# EAGLE library part 2X20-CHIP-HEADERS (library VGA-DIP)
Through hole layout with chip reference
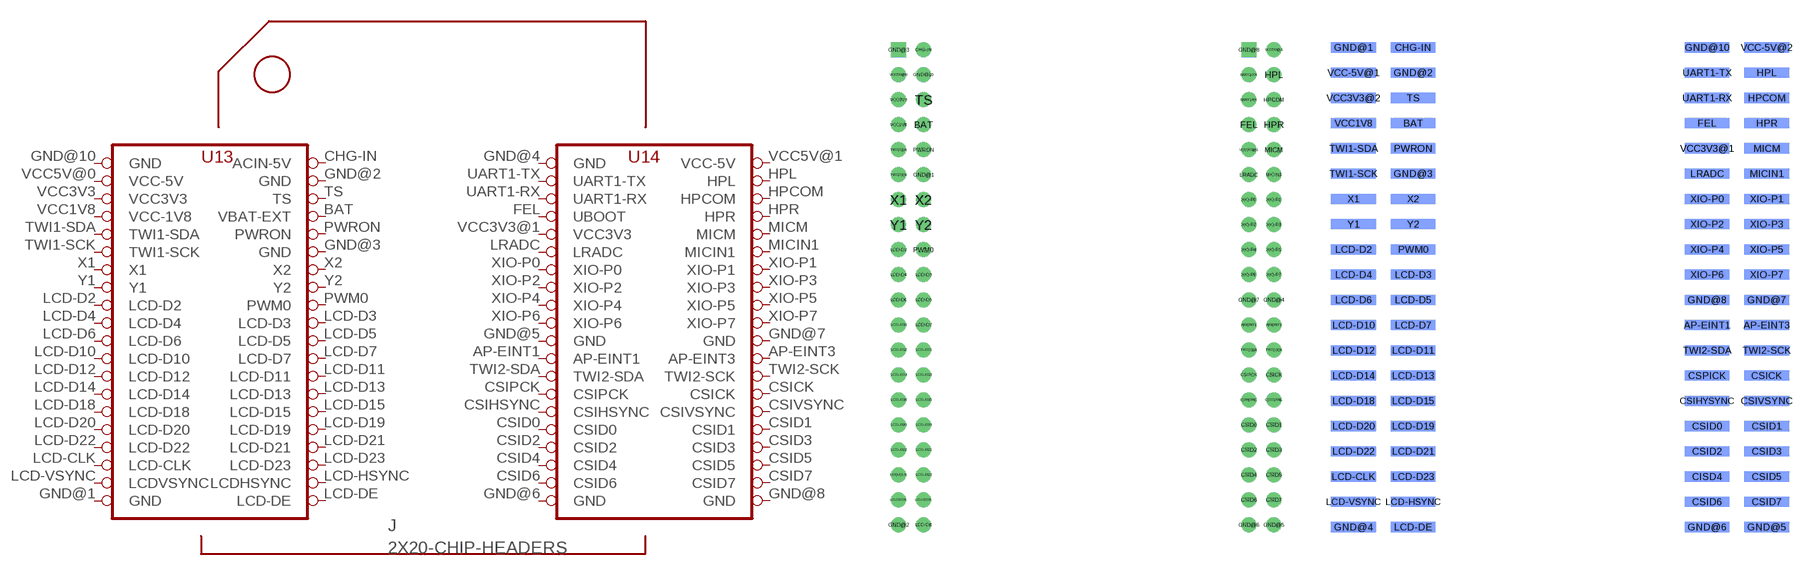
[diagram p0: symbol with the pads of 2X20CHIP-TH; footprints 2X20CHIP-TH, 2XAWHW40_G_SMD_R]

Designator prefix J

## 2X20-CHIP-HEADERS2X20-PTH-CHIP (DESCRIPTION: 2x20 .100" headers; FOOTPRINT: 2x20 .100" CHIP foot print; VENDOR: ASSMANN; VENDOR_PART_NUMBER: AWHW40-G-SMD-R (single))  [2X20CHIP-TH]
AP-EINT1  AP-EINT1  pas
AP-EINT3  AP-EINT3  pas
BAT  VBAT-EXT  pas
CHG-IN  ACIN-5V  pas
CSICK  CSICK  pas
CSID0  CSID0  pas
CSID1  CSID1  pas
CSID2  CSID2  pas
CSID3  CSID3  pas
CSID4  CSID4  pas
CSID5  CSID5  pas
CSID6  CSID6  pas
CSID7  CSID7  pas
CSIHSYNC  CSIHSYNC  pas
CSIPCK  CSIPCK  pas
CSIVSYNC  CSIVSYNC  pas
FEL  UBOOT  pas
GND@1  GND  pwr
GND@2  GND  pwr
GND@3  GND  pwr
GND@4  GND  pwr
GND@5  GND  pwr
GND@6  GND  pwr
GND@7  GND  pwr
GND@8  GND  pwr
GND@10  GND  pwr
HPCOM  HPCOM  pas
HPL  HPL  pas
HPR  HPR  pas
LCD-CLK  LCD-CLK  pas
LCD-D2  LCD-D2  pas
LCD-D3  LCD-D3  pas
LCD-D4  LCD-D4  pas
LCD-D5  LCD-D5  pas
LCD-D6  LCD-D6  pas
LCD-D7  LCD-D7  pas
LCD-D10  LCD-D10  pas
LCD-D11  LCD-D11  pas
LCD-D12  LCD-D12  pas
LCD-D13  LCD-D13  pas
LCD-D14  LCD-D14  pas
LCD-D15  LCD-D15  pas
LCD-D18  LCD-D18  pas
LCD-D19  LCD-D19  pas
LCD-D20  LCD-D20  pas
LCD-D21  LCD-D21  pas
LCD-D22  LCD-D22  pas
LCD-D23  LCD-D23  pas
LCD-DE  LCD-DE  pas
LCD-HSYNC  LCDHSYNC  pas
LCD-VSYNC  LCDVSYNC  pas
LRADC  LRADC  pas
MICIN1  MICIN1  pas
MICM  MICM  pas
PWM0  PWM0  pas
PWRON  PWRON  pas
TS  TS  pas
TWI1-SCK  TWI1-SCK  pas
TWI1-SDA  TWI1-SDA  pas
TWI2-SCK  TWI2-SCK  pas
TWI2-SDA  TWI2-SDA  pas
UART1-RX  UART1-RX  pas
UART1-TX  UART1-TX  pas
VCC1V8  VCC-1V8  pwr
VCC3V3  VCC3V3  pwr
VCC3V3@1  VCC3V3  pwr
VCC5V@0  VCC-5V  pwr
VCC5V@1  VCC-5V  pwr
X1  X1  pas
X2  X2  pas
XIO-P0  XIO-P0  pas
XIO-P1  XIO-P1  pas
XIO-P2  XIO-P2  pas
XIO-P3  XIO-P3  pas
XIO-P4  XIO-P4  pas
XIO-P5  XIO-P5  pas
XIO-P6  XIO-P6  pas
XIO-P7  XIO-P7  pas
Y1  Y1  pas
Y2  Y2  pas

## 2X20-CHIP-HEADERS2X20-SMT-CHIP  [2XAWHW40_G_SMD_R]
AP-EINT1  AP-EINT1  pas
AP-EINT3  AP-EINT3  pas
BAT  VBAT-EXT  pas
CHG-IN  ACIN-5V  pas
CISD4  CSID4  pas
CSICK  CSICK  pas
CSID0  CSID0  pas
CSID1  CSID1  pas
CSID2  CSID2  pas
CSID3  CSID3  pas
CSID5  CSID5  pas
CSID6  CSID6  pas
CSID7  CSID7  pas
CSIHYSYNC  CSIHSYNC  pas
CSIVSYNC  CSIVSYNC  pas
CSPICK  CSIPCK  pas
FEL  UBOOT  pas
GND@1  GND  pwr
GND@2  GND  pwr
GND@3  GND  pwr
GND@4  GND  pwr
GND@5  GND  pwr
GND@6  GND  pwr
GND@7  GND  pwr
GND@8  GND  pwr
GND@10  GND  pwr
HPCOM  HPCOM  pas
HPL  HPL  pas
HPR  HPR  pas
LCD-CLK  LCD-CLK  pas
LCD-D2  LCD-D2  pas
LCD-D3  LCD-D3  pas
LCD-D4  LCD-D4  pas
LCD-D5  LCD-D5  pas
LCD-D6  LCD-D6  pas
LCD-D7  LCD-D7  pas
LCD-D10  LCD-D10  pas
LCD-D11  LCD-D11  pas
LCD-D12  LCD-D12  pas
LCD-D13  LCD-D13  pas
LCD-D14  LCD-D14  pas
LCD-D15  LCD-D15  pas
LCD-D18  LCD-D18  pas
LCD-D19  LCD-D19  pas
LCD-D20  LCD-D20  pas
LCD-D21  LCD-D21  pas
LCD-D22  LCD-D22  pas
LCD-D23  LCD-D23  pas
LCD-DE  LCD-DE  pas
LCD-HSYNC  LCDHSYNC  pas
LCD-VSYNC  LCDVSYNC  pas
LRADC  LRADC  pas
MICIN1  MICIN1  pas
MICM  MICM  pas
PWM0  PWM0  pas
PWRON  PWRON  pas
TS  TS  pas
TWI1-SCK  TWI1-SCK  pas
TWI1-SDA  TWI1-SDA  pas
TWI2-SCK  TWI2-SCK  pas
TWI2-SDA  TWI2-SDA  pas
UART1-RX  UART1-RX  pas
UART1-TX  UART1-TX  pas
VCC1V8  VCC-1V8  pwr
VCC3V3@1  VCC3V3  pwr
VCC3V3@2  VCC3V3  pwr
VCC-5V@1  VCC-5V  pwr
VCC-5V@2  VCC-5V  pwr
X1  X1  pas
X2  X2  pas
XIO-P0  XIO-P0  pas
XIO-P1  XIO-P1  pas
XIO-P2  XIO-P2  pas
XIO-P3  XIO-P3  pas
XIO-P4  XIO-P4  pas
XIO-P5  XIO-P6  pas
XIO-P6  XIO-P5  pas
XIO-P7  XIO-P7  pas
Y1  Y1  pas
Y2  Y2  pas

## 2X20-CHIP-HEADERS  [2X20CHIP_SM]
Pads as for 2X20CHIP-TH

## Footprint 2X20CHIP-TH (pad centres in mm)
drill 1.016: AP-EINT1 36.83,21.59; AP-EINT3 39.37,21.59; BAT 3.81,41.91; CHG-IN 3.81,49.53; CSICK 39.37,16.51; CSID0 36.83,11.43; CSID1 39.37,11.43; CSID2 36.83,8.89; CSID3 39.37,8.89; CSID4 36.83,6.35; CSID5 39.37,6.35; CSID6 36.83,3.81; CSID7 39.37,3.81; CSIHSYNC 36.83,13.97; CSIPCK 36.83,16.51; CSIVSYNC 39.37,13.97; FEL 36.83,41.91; GND@1 3.81,36.83; GND@2 1.27,1.27; GND@4 39.37,24.13; GND@5 39.37,1.27; GND@6 36.83,1.27; GND@7 36.83,24.13; GND@10 3.81,46.99; HPCOM 39.37,44.45; HPL 39.37,46.99; HPR 39.37,41.91; LCD-CLK 1.27,6.35; LCD-D2 1.27,29.21; LCD-D3 3.81,26.67; LCD-D4 1.27,26.67; LCD-D5 3.81,24.13; LCD-D6 1.27,24.13; LCD-D7 3.81,21.59; LCD-D10 1.27,21.59; LCD-D11 3.81,19.05; LCD-D12 1.27,19.05; LCD-D13 3.81,16.51; LCD-D14 1.27,16.51; LCD-D15 3.81,13.97; LCD-D18 1.27,13.97; LCD-D19 3.81,11.43; LCD-D20 1.27,11.43; LCD-D21 3.81,8.89; LCD-D22 1.27,8.89; LCD-D23 3.81,6.35; LCD-DE 3.81,1.27; LCD-HSYNC 3.81,3.81; LCD-VSYNC 1.27,3.81; LRADC 36.83,36.83; MICIN1 39.37,36.83; MICM 39.37,39.37; PWM0 3.81,29.21; PWRON 3.81,39.37; TS 3.81,44.45; TWI1-SCK 1.27,36.83; TWI1-SDA 1.27,39.37; TWI2-SCK 39.37,19.05; TWI2-SDA 36.83,19.05; UART1-RX 36.83,44.45; UART1-TX 36.83,46.99; VCC1V8 1.27,41.91; VCC3V3 1.27,44.45; VCC3V3@1 36.83,39.37; VCC5V@0 1.27,46.99; VCC5V@1 39.37,49.53; X1 1.27,34.29; X2 3.81,34.29; XIO-P0 36.83,34.29; XIO-P1 39.37,34.29; XIO-P2 36.83,31.75; XIO-P3 39.37,31.75; XIO-P4 36.83,29.21; XIO-P5 39.37,29.21; XIO-P6 36.83,26.67; XIO-P7 39.37,26.67; Y1 1.27,31.75; Y2 3.81,31.75
drill 1.016 square: GND@3 1.27,49.53; GND@8 36.83,49.53

## Footprint 2XAWHW40_G_SMD_R (pad centres in mm)
smd 4.5 x 1.02 bottom: AP-EINT1 35.1,21.59; AP-EINT3 41.1,21.59; BAT 5.54,41.91; CHG-IN 5.54,49.53; CISD4 35.1,6.35; CSICK 41.1,16.51; CSID0 35.1,11.43; CSID1 41.1,11.43; CSID2 35.1,8.89; CSID3 41.1,8.89; CSID5 41.1,6.35; CSID6 35.1,3.81; CSID7 41.1,3.81; CSIHYSYNC 35.1,13.97; CSIVSYNC 41.1,13.97; CSPICK 35.1,16.51; FEL 35.1,41.91; GND@1 -0.46,49.53; GND@2 5.54,46.99; GND@3 5.54,36.83; GND@4 -0.46,1.27; GND@5 41.1,1.27; GND@6 35.1,1.27; GND@7 41.1,24.13; GND@8 35.1,24.13; GND@10 35.1,49.53; HPCOM 41.1,44.45; HPL 41.1,46.99; HPR 41.1,41.91; LCD-CLK -0.46,6.35; LCD-D2 -0.46,29.21; LCD-D3 5.54,26.67; LCD-D4 -0.46,26.67; LCD-D5 5.54,24.13; LCD-D6 -0.46,24.13; LCD-D7 5.54,21.59; LCD-D10 -0.46,21.59; LCD-D11 5.54,19.05; LCD-D12 -0.46,19.05; LCD-D13 5.54,16.51; LCD-D14 -0.46,16.51; LCD-D15 5.54,13.97; LCD-D18 -0.46,13.97; LCD-D19 5.54,11.43; LCD-D20 -0.46,11.43; LCD-D21 5.54,8.89; LCD-D22 -0.46,8.89; LCD-D23 5.54,6.35; LCD-DE 5.54,1.27; LCD-HSYNC 5.54,3.81; LCD-VSYNC -0.46,3.81; LRADC 35.1,36.83; MICIN1 41.1,36.83; MICM 41.1,39.37; PWM0 5.54,29.21; PWRON 5.54,39.37; TS 5.54,44.45; TWI1-SCK -0.46,36.83; TWI1-SDA -0.46,39.37; TWI2-SCK 41.1,19.05; TWI2-SDA 35.1,19.05; UART1-RX 35.1,44.45; UART1-TX 35.1,46.99; VCC1V8 -0.46,41.91; VCC3V3@1 35.1,39.37; VCC3V3@2 -0.46,44.45; VCC-5V@1 -0.46,46.99; VCC-5V@2 41.1,49.53; X1 -0.46,34.29; X2 5.54,34.29; XIO-P0 35.1,34.29; XIO-P1 41.1,34.29; XIO-P2 35.1,31.75; XIO-P3 41.1,31.75; XIO-P4 35.1,29.21; XIO-P5 41.1,29.21; XIO-P6 35.1,26.67; XIO-P7 41.1,26.67; Y1 -0.46,31.75; Y2 5.54,31.75

## Footprint 2X20CHIP_SM (pad centres in mm)
drill 1.016: AP-EINT1 36.81,21.65; AP-EINT3 39.35,21.65; BAT 3.79,41.97; CHG-IN 3.79,49.59; CSICK 39.35,16.57; CSID0 36.81,11.49; CSID1 39.35,11.49; CSID2 36.81,8.95; CSID3 39.35,8.95; CSID4 36.81,6.41; CSID5 39.35,6.41; CSID6 36.81,3.87; CSID7 39.35,3.87; CSIHSYNC 36.81,14.03; CSIPCK 36.81,16.57; CSIVSYNC 39.35,14.03; FEL 36.81,41.97; GND@1 3.79,36.89; GND@2 1.25,1.33; GND@4 39.35,24.19; GND@5 39.35,1.33; GND@6 36.81,1.33; GND@7 36.81,24.19; GND@10 3.79,47.05; HPCOM 39.35,44.51; HPL 39.35,47.05; HPR 39.35,41.97; LCD-CLK 1.25,6.41; LCD-D2 1.25,29.27; LCD-D3 3.79,26.73; LCD-D4 1.25,26.73; LCD-D5 3.79,24.19; LCD-D6 1.25,24.19; LCD-D7 3.79,21.65; LCD-D10 1.25,21.65; LCD-D11 3.79,19.11; LCD-D12 1.25,19.11; LCD-D13 3.79,16.57; LCD-D14 1.25,16.57; LCD-D15 3.79,14.03; LCD-D18 1.25,14.03; LCD-D19 3.79,11.49; LCD-D20 1.25,11.49; LCD-D21 3.79,8.95; LCD-D22 1.25,8.95; LCD-D23 3.79,6.41; LCD-DE 3.79,1.33; LCD-HSYNC 3.79,3.87; LCD-VSYNC 1.25,3.87; LRADC 36.81,36.89; MICIN1 39.35,36.89; MICM 39.35,39.43; PWM0 3.79,29.27; PWRON 3.79,39.43; TS 3.79,44.51; TWI1-SCK 1.25,36.89; TWI1-SDA 1.25,39.43; TWI2-SCK 39.35,19.11; TWI2-SDA 36.81,19.11; UART1-RX 36.81,44.51; UART1-TX 36.81,47.05; VCC1V8 1.25,41.97; VCC3V3 1.25,44.51; VCC3V3@1 36.81,39.43; VCC5V@0 1.25,47.05; VCC5V@1 39.35,49.59; X1 1.25,34.35; X2 3.79,34.35; XIO-P0 36.81,34.35; XIO-P1 39.35,34.35; XIO-P2 36.81,31.81; XIO-P3 39.35,31.81; XIO-P4 36.81,29.27; XIO-P5 39.35,29.27; XIO-P6 36.81,26.73; XIO-P7 39.35,26.73; Y1 1.25,31.81; Y2 3.79,31.81
drill 1.016 square: GND@3 1.25,49.59; GND@8 36.81,49.59